# Altium footprint library MCULIB.PcbLib: 26 footprints (part 1 of 2)
Each footprint in its own frame and in the unit in brackets; x right, y up, seen from the top. Pads: shape width x height; smd on the part's side, far side on the other; paste and mask are expansions set on the pad; w line width, h text height; cw(c..) or ccw(c..) is an arc to the next point about the centre after c.
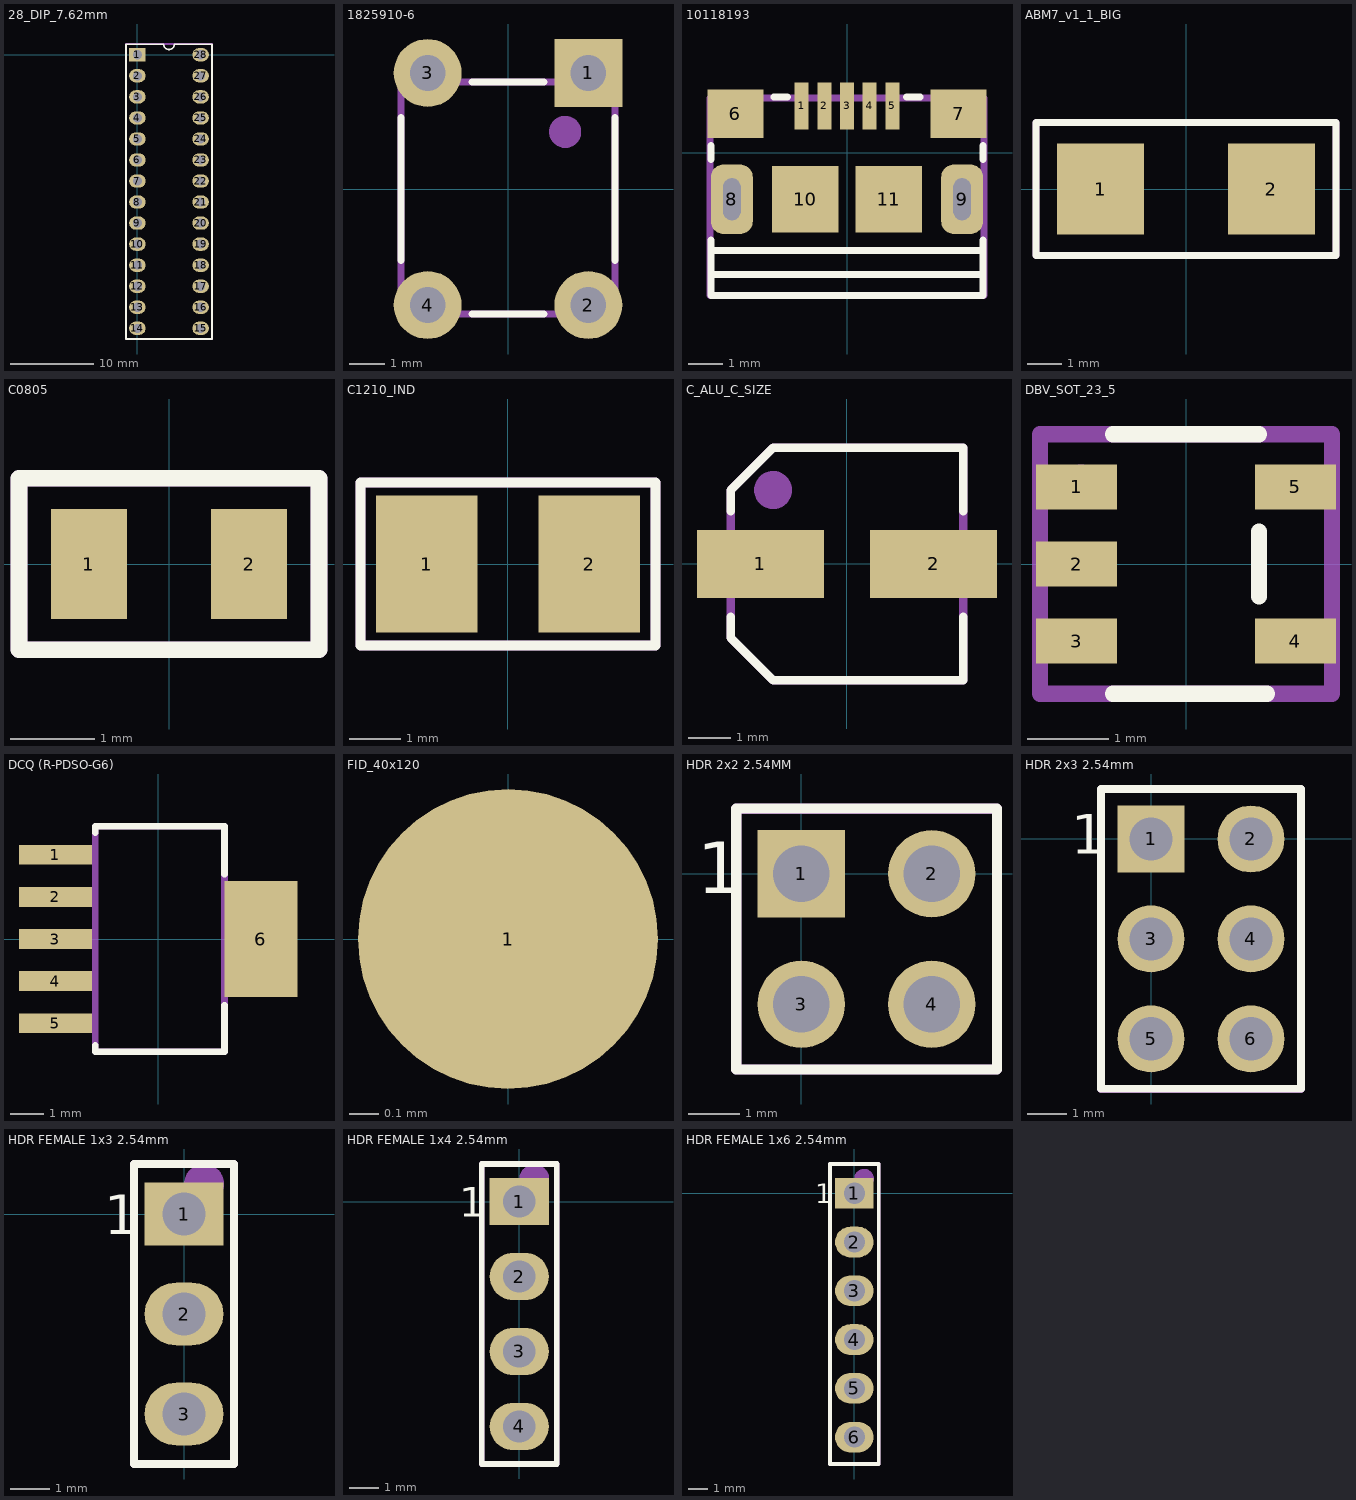
[diagram p0: the footprints below, top view; thin cyan lines are the x and y axes]

## 28_DIP_7.62mm [mm]
pads (28):
  rect 2x1.6 hole 1.1: 1(0,0)
  oval 2x1.6 hole 1.1: 2(0,-2.54) 3(0,-5.08) 4(0,-7.62) 5(0,-10.16) 6(0,-12.7) 7(0,-15.24) 8(0,-17.78) 9(0,-20.32) 10(0,-22.86) 11(0,-25.4) 12(0,-27.94) 13(0,-30.48) 14(0,-33.02) 15(7.62,-33.02) 16(7.62,-30.48) 17(7.62,-27.94) 18(7.62,-25.4) 19(7.62,-22.86) 20(7.62,-20.32) 21(7.62,-17.78) 22(7.62,-15.24) 23(7.62,-12.7) 24(7.62,-10.16) 25(7.62,-7.62) 26(7.62,-5.08) 27(7.62,-2.54) 28(7.62,0)
Top Overlay:
  lines w0.2: -1.39,-34.31 -1.39,1.27 3.175,1.27 ccw(c3.81,1.27) 4.445,1.27 9.01,1.27 9.01,-34.31 -1.39,-34.31
Mechanical 29:
  circle w0.5: c-0.09,-0.01 r0.25
  lines w0.254: -1.39,-34.31 9.01,-34.31 9.01,1.29 -1.39,1.29 -1.39,-34.31
  text ".Designator" at 4.41,-20.71 h1.52
3D body "User Library-28 pin dip.step": height 7.55, standoff 1.33, extent -0.164,-34.38 7.71,1.561

## 28DIP_7.62MM_SOCKET [mm]
3D body "dil_socket.stp": height 4.2, standoff -3.17, extent -1.24,-34.26 8.86,1.24

## 1825910-6 [mm]
pads (4):
  rect 1.9x1.9 hole 1: 1(2.25,3.25)
  round 1.9 hole 1: 2(2.25,-3.25) 3(-2.25,3.25) 4(-2.25,-3.25)
Top Overlay:
  lines w0.2: -3,-2 -3,2 ; -1,-3.5 1,-3.5 ; -1,3 1,3 ; 3,-2 3,2
Mechanical 29:
  circle w0.5: c1.6,1.6 r0.2
  lines w0.2: -3,-3.5 -3,3 3,3 3,-3.5 -3,-3.5
  text ".Designator" at -1.5,-0.7 h1.3
3D body "User Library-FSM4JLH(1825910-5).step": height 5, standoff -3.51, extent -2.995,-3.898 2.995,3.9

## 10118193 [mm]
pads (11):
  rect 0.4x1.35 smd mask+0.05: 1(-1.3,1.338) 2(-0.65,1.338) 3(0,1.338) 4(0.65,1.338) 5(1.3,1.338)
  rect 1.6x1.4 smd: 6(-3.2,1.112) 7(3.2,1.112)
  rrect60% 1.2x2 hole 0.5 slot 1.2 at 90 deg: 8(-3.3,-1.338) 9(3.3,-1.338)
  rect 1.9x1.9 smd: 10(-1.2,-1.338) 11(1.2,-1.338)
Top Overlay:
  lines w0.2: -3.9,-3.5 3.9,-3.5 ; -3.9,-2.8 3.9,-2.8 ; -3.9,-2.5 -3.9,-4.1 3.9,-4.1 3.9,-2.5 ; -3.9,-0.2 -3.9,0.2 ; -2.1,1.6 -1.7,1.6 ; 1.7,1.6 2.1,1.6 ; 3.9,-0.2 3.9,0.2
Mechanical 29:
  lines w0.2: -3.928,-4.098 -3.928,1.563 3.928,1.563 3.928,-4.098 -3.928,-4.098
  text ".Designator" at -1.6,-0.6 h1.52
3D body "10118193-0001lfc.stp": height 2.81, standoff -0.79, extent -3.928,-4.098 3.929,1.563

## ABM7_v1_1_BIG [mm]
pads (2):
  rect 2.5x2.6 smd: 1(-2.45,0) 2(2.45,0)
Top Overlay:
  lines w0.2: -4.3,-1.9 -4.3,0.6 -4.3,1.9 4.3,1.9 4.3,-1.9 -4.3,-1.9
Mechanical 29:
  lines w0.2: -4.3,-1.9 4.3,-1.9 4.3,1.9 -4.3,1.9 -4.3,-1.9
  text ".Designator" at -2,-0.3 h0.6
3D body "ABM7.STEP": height 1.41, standoff 0.01, extent -2.997,-1.753 2.997,1.752

## C0805 [mm]
pads (2):
  rect 0.9x1.3 smd: 1(-0.95,0) 2(0.95,0)
Top Overlay:
  lines w0.2: 1.778,-1.016 -1.778,-1.016 -1.778,1.016 1.778,1.016 1.778,-0.976
Mechanical 29:
  lines w0.2: -1.778,-1.016 1.778,-1.016 1.778,1.016 -1.778,1.016 -1.778,-1.016
  text ".Designator" at -1.016,-0.254 h0.6
3D body "CAPC2012X95N EIA 0805.step": height 0.96, standoff 0.01, extent -0.984,-0.6 1.016,0.6

## C1210_IND [mm]
pads (2):
  rect 2x2.7 smd: 1(-1.6,0) 2(1.6,0)
Top Overlay:
  lines w0.2: -2.9,-1.6 2.9,-1.6 2.9,1.6 -2.9,1.6 -2.9,-1.6
Mechanical 29:
  lines w0.2: -2.9,-1.6 2.9,-1.6 2.9,1.6 -2.9,1.6 -2.9,-1.6
  text ".Designator" at -1.6,-0.5 h1
3D body: height 2.7, standoff 0, extent 1.2,-1.25 1.5,1.25
3D body: height 2.7, standoff 0, extent -1.5,-1.25 -1.2,1.25
3D body: height 2.7, standoff 0, extent -1.2,-1.25 1.2,1.25

## C_ALU_C_SIZE [mm]
pads (2):
  rect 3x1.6 smd: 1(-2.05,0) 2(2.05,0)
Top Overlay:
  lines w0.2: -2.75,-1.25 -2.75,-1.75 -1.75,-2.75 2.75,-2.75 2.75,-1.25 ; -2.75,1.25 -2.75,1.75 -1.75,2.75 2.75,2.75 2.75,1.25
Mechanical 29:
  circle w0.5: c-1.75,1.75 r0.2
  lines w0.2: -2.75,-1.75 -2.75,1.75 -1.75,2.75 2.75,2.75 2.75,-2.75 -1.75,-2.75 -2.75,-1.75
  text ".Designator" at -1.5,-0.75 h1.2
3D body "User Library-capacitor size C.step": height 5.41, standoff -0.01, extent -3,-2.65 2.9,2.65

## DBV_SOT_23_5 [mm]
pads (5):
  rect 1x0.55 smd: 1(-1.35,0.95) 2(-1.35,0) 3(-1.35,-0.95) 4(1.35,-0.95) 5(1.35,0.95)
Top Overlay:
  lines w0.2: -0.9,-1.6 1,-1.6 ; -0.9,1.6 0.9,1.6 ; 0.9,-0.4 0.9,0.4
Mechanical 29:
  circle w0.254: c-1.3,1 r0.1
  lines w0.2: -1.8,-1.6 -1.8,1.6 1.8,1.6 1.8,-1.6 -1.8,-1.6
  text ".Designator" at -1.1,-0.2 h0.6
3D body "User Library-TPS79333DBVR.step": height 1.61, standoff -0.01, extent -1.513,-1.525 1.514,1.525

## DCQ (R-PDSO-G6) [mm]
pads (6):
  rect 2.2x0.6 smd: 1(-3.1,2.54) 2(-3.1,1.27) 3(-3.1,0) 4(-3.1,-1.27) 5(-3.1,-2.54)
  rect 2.2x3.5 smd: 6(3.1,0)
Top Overlay:
  lines w0.2: -1.9,-3.2 -1.9,-3.4 2,-3.4 2,-2 ; -1.9,3.2 -1.9,3.4 2,3.4 2,1.95
Mechanical 29:
  lines w0.2: -1.9,-3.4 -1.9,3.4 2,3.4 2,-3.4 -1.9,-3.4
  text ".Designator" at -0.9,-0.3 h1.5
3D body "User Library-TPS73701DCQ.step": height 1.8, standoff 0, extent -3.63,-3.275 3.631,3.275

## FID_40x120 [mil]
pads (1):
  round 40 smd paste-40 mask+40: 1(0,0)

## HDR 2x2 2.54MM [mm]
pads (4):
  rect 1.7x1.7 hole 1.1: 1(0,0)
  round 1.7 hole 1.1: 2(2.54,0) 3(0,-2.54) 4(2.54,-2.54)
Top Overlay:
  lines w0.2: -1.27,-3.81 -1.27,1.27 3.81,1.27 3.81,-3.81 -1.27,-3.81
  text "1" at -2.032,-0.381 h1
Mechanical 29:
  circle w0.508: c-0.381,0.381 r0.191
  lines w0.2: -1.27,-3.81 -1.27,1.265 3.81,1.265 3.81,-3.81 -1.27,-3.81
  text ".Designator" at 1.524,-3.175 h0.6
3D body "961204-6404-XX.stp": height 8.01, standoff -3.29, extent -1.27,-3.77 3.81,1.23

## HDR 2x3 2.54mm [mm]
pads (6):
  rect 1.7x1.7 hole 1.1: 1(0,0)
  round 1.7 hole 1.1: 2(2.54,0) 3(0,-2.54) 4(2.54,-2.54) 5(0,-5.08) 6(2.54,-5.08)
Top Overlay:
  lines w0.2: -1.27,-6.35 -1.27,1.27 3.81,1.27 3.81,-6.35 -1.27,-6.35
  text "1" at -2.032,-0.381 h1
Mechanical 29:
  circle w0.508: c-0.381,0.381 r0.191
  lines w0.2: -1.27,-6.355 -1.27,1.265 3.81,1.265 3.81,-6.355 -1.27,-6.355
  text ".Designator" at 1.524,-4.318 h0.6
3D body "User Library-Header3x2_100_TH.STEP": height 8.45, standoff -2.53, extent -1.27,-6.355 3.81,1.265

## HDR FEMALE 1x3 2.54mm [mm]
pads (3):
  rect 2x1.6 hole 1.1: 1(0,0)
  oval 2x1.6 hole 1.1: 2(0,-2.54) 3(0,-5.08)
Top Overlay:
  lines w0.2: -1.27,-6.35 1.27,-6.35 1.27,1.27 -1.27,1.27 -1.27,-6.35
  text "1" at -2.032,-0.508 h1
Mechanical 29:
  circle w0.508: c0.508,0.762 r0.254
  lines w0.2: -1.27,-6.35 1.27,-6.35 1.27,1.27 -1.27,1.27 -1.27,-6.35
  text ".Designator" at 0.508,-3.048 h1.52
3D body "HDR_1x3_White.stp": height 8.39, standoff -3.11, extent -1.14,-6.15 1.27,1.07

## HDR FEMALE 1x4 2.54mm [mm]
pads (4):
  rect 2x1.6 hole 1.1: 1(0,0)
  oval 2x1.6 hole 1.1: 2(0,-2.54) 3(0,-5.08) 4(0,-7.62)
Top Overlay:
  lines w0.2: -1.27,-8.89 -1.27,1.27 1.27,1.27 1.27,-8.89 -1.27,-8.89
  text "1" at -2.032,-0.508 h1
Mechanical 29:
  circle w0.508: c0.508,0.762 r0.254
  lines w0.2: -1.27,-8.89 -1.27,1.27 1.27,1.27 1.27,-8.89 -1.27,-8.89
  text ".Designator" at 0.508,-8.128 h1.52
3D body "HDR_1x4_White.stp": height 8.39, standoff -3.11, extent -1.205,-8.69 1.205,1.07

## HDR FEMALE 1x6 2.54mm [mm]
pads (6):
  rect 2x1.6 hole 1.1: 1(0,0)
  oval 2x1.6 hole 1.1: 2(0,-2.54) 3(0,-5.08) 4(0,-7.62) 5(0,-10.16) 6(0,-12.7)
Top Overlay:
  lines w0.2: -1.27,-14.1 1.27,-14.1 1.27,1.524 -1.27,1.524 -1.27,-14.1
  text "1" at -2.032,-0.508 h1
Mechanical 29:
  circle w0.508: c0.508,0.762 r0.254
  lines w0.2: -1.27,-14.1 1.27,-14.1 1.27,1.524 -1.27,1.524 -1.27,-14.1
  text ".Designator" at -0.508,-13.208 h1.52
3D body "m20-7820646_asm.stp": height 8.51, standoff -2.99, extent -1.25,-14.17 1.25,1.47